# Altium schematic symbol library Conectors_Molex.SchLib: 1 symbol
Pins are listed as number, name and electrical type; pins without a type are passive.

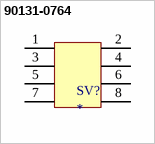
[diagram p0: symbol 90131-0764]

## 90131-0764
designator SV?
Conn Unshrouded Header HDR 8 POS 2.54mm Solder ST Thru-Hole Tray; Manufacturer: Molex; Manufacturer Part Number: 90131-0764; Number of Positions: 8; Gender: Male; Current Rating: 3A; Voltage Rating: 350V; Contact Resistance: 20mR; Insulation Resistance: 5GR; Supplier 1: Digi-Key; RoHS: Yes; Category: Connectors; Stock 1: 1061; Pricing 1: 1=2,24000, 10=2,03400, 100=1,74300, 500=1,45250, 1000=1,24500, 5000=1,10390, 10000=1,07900 (USD); Mount: Through Hole; Housing Color: Black; Contact Plating: Gold; Contact Material: Brass; Housing Material: Polyester; Min Operating Temperature: -55°C; Max Operating Temperature: 125°C; Orientation: Straight; Number of Rows: 2; Packaging: Tray; Termination: Solder; Number of Contacts: 8; Package Quantity: 2400; Number of Poles: 8; Voltage Rating (AC): 350V; Working Voltage: 350V; Pitch: 2.54mm; Lead Pitch: 2.54mm; Radiation Hardening: No; Lead Free: Lead Free; REACH SVHC: Unknown; ComponentLink1URL: https://datasheet.ciiva.com/30231/0901310764-pcb-headers-30231232.pdf?src-supplier=Onlinecomponents.com; ComponentLink1Description: https://datasheet.ciiva.com/30231/0901310764-pcb-headers-30231232.pdf?src-supplier=Onlinecomponents.com; ComponentLink2URL: https://datasheet.ciiva.com/11748/0900766b81280103-11748626.pdf?src-supplier=RSComponents; ComponentLink2Description: https://datasheet.ciiva.com/11748/0900766b81280103-11748626.pdf?src-supplier=RSComponents; ComponentLink3URL: https://datasheet.ciiva.com/5158/0901310764-pcb-headers-151525-5158722.pdf?src-supplier=Mouser; ComponentLink3Description: https://datasheet.ciiva.com/5158/0901310764-pcb-headers-151525-5158722.pdf?src-supplier=Mouser
footprint CONN HEADER VERT 8POS 2.54MM
pins: 1, 2, 3, 4, 5, 6, 7, 8